# EAGLE library part ATSAMD21J (library mux-board)
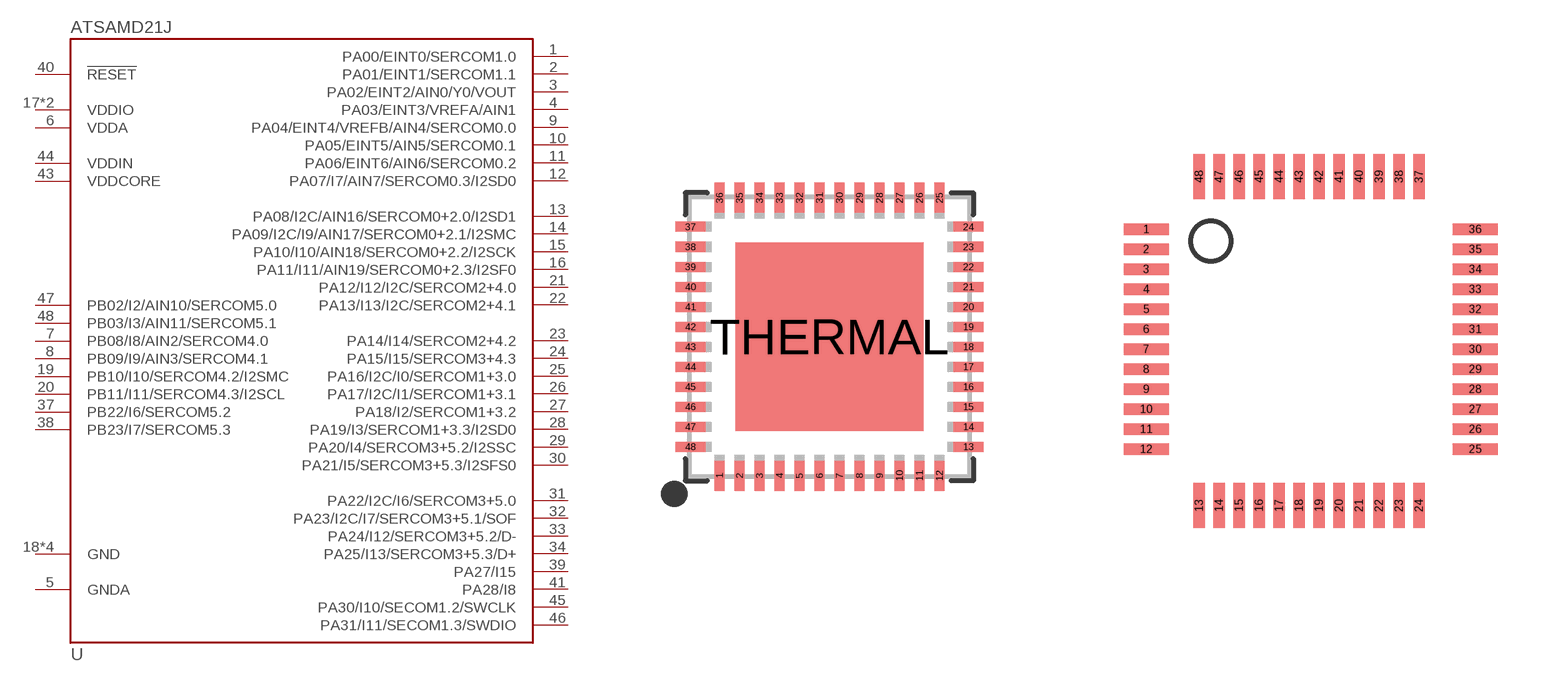
[diagram p0: symbol with the pads of TQFN48_7MM; footprints TQFN48_7MM, MUX-BOARD_TQFP48_7MM]

Designator prefix -

## ATSAMD21J_QFN  [TQFN48_7MM]
1  PA00/EINT0/SERCOM1.0
2  PA01/EINT1/SERCOM1.1
3  PA02/EINT2/AIN0/Y0/VOUT
4  PA03/EINT3/VREFA/AIN1
5  GNDA  pwr
6  VDDA  pwr
7  PB08/I8/AIN2/SERCOM4.0
8  PB09/I9/AIN3/SERCOM4.1
9  PA04/EINT4/VREFB/AIN4/SERCOM0.0
10  PA05/EINT5/AIN5/SERCOM0.1
11  PA06/EINT6/AIN6/SERCOM0.2
12  PA07/I7/AIN7/SERCOM0.3/I2SD0
13  PA08/I2C/AIN16/SERCOM0+2.0/I2SD1
14  PA09/I2C/I9/AIN17/SERCOM0+2.1/I2SMC
15  PA10/I10/AIN18/SERCOM0+2.2/I2SCK
16  PA11/I11/AIN19/SERCOM0+2.3/I2SF0
17  VDDIO  pwr
18  GND  pwr
19  PB10/I10/SERCOM4.2/I2SMC
20  PB11/I11/SERCOM4.3/I2SCL
21  PA12/I12/I2C/SERCOM2+4.0
22  PA13/I13/I2C/SERCOM2+4.1
23  PA14/I14/SERCOM2+4.2
24  PA15/I15/SERCOM3+4.3
25  PA16/I2C/I0/SERCOM1+3.0
26  PA17/I2C/I1/SERCOM1+3.1
27  PA18/I2/SERCOM1+3.2
28  PA19/I3/SERCOM1+3.3/I2SD0
29  PA20/I4/SERCOM3+5.2/I2SSC
30  PA21/I5/SERCOM3+5.3/I2SFS0
31  PA22/I2C/I6/SERCOM3+5.0
32  PA23/I2C/I7/SERCOM3+5.1/SOF
33  PA24/I12/SERCOM3+5.2/D-
34  PA25/I13/SERCOM3+5.3/D+
35  GND  pwr
36  VDDIO  pwr
37  PB22/I6/SERCOM5.2
38  PB23/I7/SERCOM5.3
39  PA27/I15
40  !RESET
41  PA28/I8
42  GND  pwr
43  VDDCORE  pwr
44  VDDIN  pwr
45  PA30/I10/SECOM1.2/SWCLK
46  PA31/I11/SECOM1.3/SWDIO
47  PB02/I2/AIN10/SERCOM5.0
48  PB03/I3/AIN11/SERCOM5.1
THERMAL  GND  pwr

## ATSAMD21J  [MUX-BOARD_TQFP48_7MM]
1  PA00/EINT0/SERCOM1.0
2  PA01/EINT1/SERCOM1.1
3  PA02/EINT2/AIN0/Y0/VOUT
4  PA03/EINT3/VREFA/AIN1
5  GNDA  pwr
6  VDDA  pwr
7  PB08/I8/AIN2/SERCOM4.0
8  PB09/I9/AIN3/SERCOM4.1
9  PA04/EINT4/VREFB/AIN4/SERCOM0.0
10  PA05/EINT5/AIN5/SERCOM0.1
11  PA06/EINT6/AIN6/SERCOM0.2
12  PA07/I7/AIN7/SERCOM0.3/I2SD0
13  PA08/I2C/AIN16/SERCOM0+2.0/I2SD1
14  PA09/I2C/I9/AIN17/SERCOM0+2.1/I2SMC
15  PA10/I10/AIN18/SERCOM0+2.2/I2SCK
16  PA11/I11/AIN19/SERCOM0+2.3/I2SF0
17  VDDIO  pwr
18  GND  pwr
19  PB10/I10/SERCOM4.2/I2SMC
20  PB11/I11/SERCOM4.3/I2SCL
21  PA12/I12/I2C/SERCOM2+4.0
22  PA13/I13/I2C/SERCOM2+4.1
23  PA14/I14/SERCOM2+4.2
24  PA15/I15/SERCOM3+4.3
25  PA16/I2C/I0/SERCOM1+3.0
26  PA17/I2C/I1/SERCOM1+3.1
27  PA18/I2/SERCOM1+3.2
28  PA19/I3/SERCOM1+3.3/I2SD0
29  PA20/I4/SERCOM3+5.2/I2SSC
30  PA21/I5/SERCOM3+5.3/I2SFS0
31  PA22/I2C/I6/SERCOM3+5.0
32  PA23/I2C/I7/SERCOM3+5.1/SOF
33  PA24/I12/SERCOM3+5.2/D-
34  PA25/I13/SERCOM3+5.3/D+
35  GND  pwr
36  VDDIO  pwr
37  PB22/I6/SERCOM5.2
38  PB23/I7/SERCOM5.3
39  PA27/I15
40  !RESET
41  PA28/I8
42  GND  pwr
43  VDDCORE  pwr
44  VDDIN  pwr
45  PA30/I10/SECOM1.2/SWCLK
46  PA31/I11/SECOM1.3/SWDIO
47  PB02/I2/AIN10/SERCOM5.0
48  PB03/I3/AIN11/SERCOM5.1

## Footprint TQFN48_7MM (pad centres in mm)
smd 0.25 x 0.75: 1 -2.75,-3.475; 2 -2.25,-3.475; 3 -1.75,-3.475; 4 -1.25,-3.475; 5 -0.75,-3.475; 6 -0.25,-3.475; 7 0.25,-3.475; 8 0.75,-3.475; 9 1.25,-3.475; 10 1.75,-3.475; 11 2.25,-3.475; 12 2.75,-3.475; 25 2.75,3.475; 26 2.25,3.475; 27 1.75,3.475; 28 1.25,3.475; 29 0.75,3.475; 30 0.25,3.475; 31 -0.25,3.475; 32 -0.75,3.475; 33 -1.25,3.475; 34 -1.75,3.475; 35 -2.25,3.475; 36 -2.75,3.475
smd 0.75 x 0.25: 13 3.475,-2.75; 14 3.475,-2.25; 15 3.475,-1.75; 16 3.475,-1.25; 17 3.475,-0.75; 18 3.475,-0.25; 19 3.475,0.25; 20 3.475,0.75; 21 3.475,1.25; 22 3.475,1.75; 23 3.475,2.25; 24 3.475,2.75; 37 -3.475,2.75; 38 -3.475,2.25; 39 -3.475,1.75; 40 -3.475,1.25; 41 -3.475,0.75; 42 -3.475,0.25; 43 -3.475,-0.25; 44 -3.475,-0.75; 45 -3.475,-1.25; 46 -3.475,-1.75; 47 -3.475,-2.25; 48 -3.475,-2.75
smd 4.7 x 4.7: THERMAL 0,0

## Footprint MUX-BOARD_TQFP48_7MM (pad centres in mm)
smd 1.13 x 0.29: 1 -4.115,2.795; 2 -4.115,2.295; 3 -4.115,1.795; 4 -4.115,1.295; 5 -4.115,0.795; 6 -4.115,0.295; 7 -4.115,-0.205; 8 -4.115,-0.705; 9 -4.115,-1.205; 10 -4.115,-1.705; 11 -4.115,-2.205; 12 -4.115,-2.705; 25 4.115,-2.705; 26 4.115,-2.205; 27 4.115,-1.705; 28 4.115,-1.205; 29 4.115,-0.705; 30 4.115,-0.205; 31 4.115,0.295; 32 4.115,0.795; 33 4.115,1.295; 34 4.115,1.795; 35 4.115,2.295; 36 4.115,2.795
smd 0.29 x 1.13: 13 -2.795,-4.115; 14 -2.295,-4.115; 15 -1.795,-4.115; 16 -1.295,-4.115; 17 -0.795,-4.115; 18 -0.295,-4.115; 19 0.205,-4.115; 20 0.705,-4.115; 21 1.205,-4.115; 22 1.705,-4.115; 23 2.205,-4.115; 24 2.705,-4.115; 37 2.705,4.115; 38 2.205,4.115; 39 1.705,4.115; 40 1.205,4.115; 41 0.705,4.115; 42 0.205,4.115; 43 -0.295,4.115; 44 -0.795,4.115; 45 -1.295,4.115; 46 -1.795,4.115; 47 -2.295,4.115; 48 -2.795,4.115